# Altium schematic symbol library fuses.SchLib: 1 symbol
Pins are listed as number, name and electrical type; pins without a type are passive.

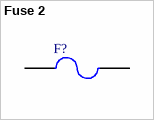
[diagram p0: symbol Fuse 2]

## Fuse 2
designator F?
Fuse; Published: 8-Jun-2000; LatestRevisionDate: 17-Jul-2002; LatestRevisionNote: Re-released for DXP Platform.; PackageReference: PIN-W2/E2.8; Publisher: Altium Limited; PackageDescription: Thru-Hole; 2 Leads
footprint FUSE-PCB-5x20mm (Thru-Hole; 2 Leads)
simulation model FUSE (Spice Subcircuit)
pins: 1, 2